# EAGLE library part CONNECTOR-24_?_* (library HyTechDevices)
24 pin ribbon connector header (EHT-112-01) Catalog <https://suddendocs.samtec.com/catalog_english/eht.pdf> Datasheet <http://suddendocs.samtec.com/prints/eht-d.pdf> Part <https://www.digikey.com/en/products/detail/samtec-inc/EHT-112-01-F-D/6693915>
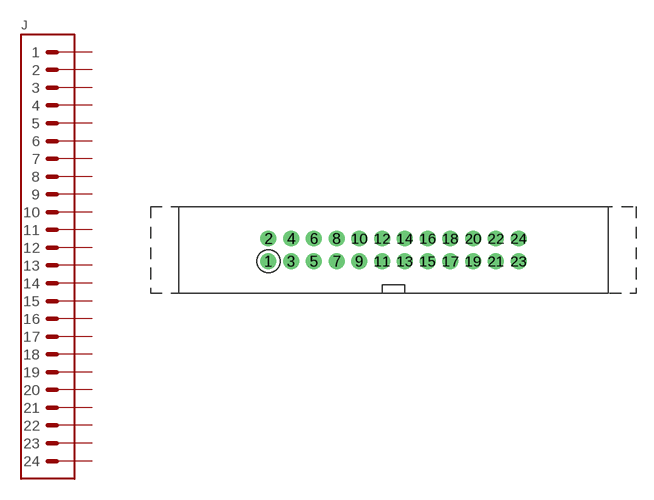
[diagram p87: symbol with the pads of EHT-112-01; footprint EHT-112-01]

Designator prefix J

## CONNECTOR-24_CONNECTOR-24_ (DKPN: EHT-112-01-F-D-ND; MANUFACTURER: Samtec; MOPN: 200-EHT11201FD; MPN: EHT-112-01-F-D)  [EHT-112-01]
1  1  pas
2  2  pas
3  3  pas
4  4  pas
5  5  pas
6  6  pas
7  7  pas
8  8  pas
9  9  pas
10  10  pas
11  11  pas
12  12  pas
13  13  pas
14  14  pas
15  15  pas
16  16  pas
17  17  pas
18  18  pas
19  19  pas
20  20  pas
21  21  pas
22  22  pas
23  23  pas
24  24  pas

## Footprint EHT-112-01 (pad centres in mm)
24 pin ribbon connector header (EHT-112-01) Catalog <https://suddendocs.samtec.com/catalog_english/eht.pdf> Datasheet <http://suddendocs.samtec.com/prints/eht-d.pdf> Part <https://www.digikey.com/en/products/detail/samtec-inc/EHT-112-01-F-D/6693915>
drill 0.889: 1 -10.994,-0.999; 2 -10.994,0.999; 3 -8.995,-0.999; 4 -8.995,0.999; 5 -6.996,-0.999; 6 -6.996,0.999; 7 -4.997,-0.999; 8 -4.997,0.999; 9 -2.998,-0.999; 10 -2.998,0.999; 11 -0.999,-0.999; 12 -0.999,0.999; 13 0.999,-0.999; 14 0.999,0.999; 15 2.998,-0.999; 16 2.998,0.999; 17 4.997,-0.999; 18 4.997,0.999; 19 6.996,-0.999; 20 6.996,0.999; 21 8.995,-0.999; 22 8.995,0.999; 23 10.994,-0.999; 24 10.994,0.999